# EAGLE library part EM260 (library ember)
LED driver with 28 current sources and I2C interface
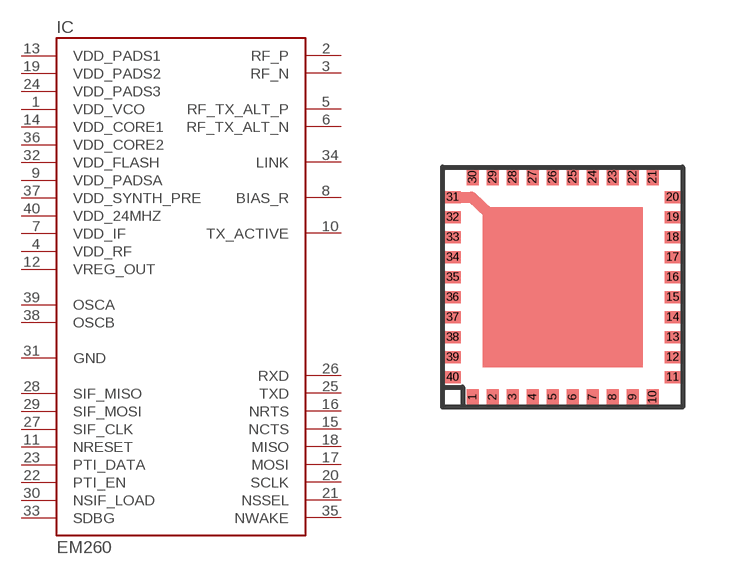
[diagram p0: symbol with the pads of QFN40; footprint QFN40]

Designator prefix IC

## EM260  [QFN40]
1  VDD_VCO  pwr
2  RF_P
3  RF_N
4  VDD_RF  pwr
5  RF_TX_ALT_P  out
6  RF_TX_ALT_N  out
7  VDD_IF  pwr
8  BIAS_R  in
9  VDD_PADSA  pwr
10  TX_ACTIVE  out
11  NRESET  in
12  VREG_OUT  in
13  VDD_PADS1  pwr
14  VDD_CORE1  pwr
15  NCTS  in
16  NRTS  out
17  MOSI  in
18  MISO  out
19  VDD_PADS2  pwr
20  SCLK  in
21  NSSEL  in
22  PTI_EN  out
23  PTI_DATA  out
24  VDD_PADS3  in
25  TXD  out
26  RXD  in
27  SIF_CLK  pwr
28  SIF_MISO  out
29  SIF_MOSI  in
30  NSIF_LOAD
31  GND  pwr
32  VDD_FLASH  in
33  SDBG  out
34  LINK  out
35  NWAKE  in
36  VDD_CORE2  pwr
37  VDD_SYNTH_PRE  pwr
38  OSCB
39  OSCA
40  VDD_24MHZ  pwr

## Footprint QFN40 (pad centres in mm)
smd 0.3 x 0.4: 1 -2.25,-2.75; 2 -1.75,-2.75; 3 -1.25,-2.75; 4 -0.75,-2.75; 5 -0.25,-2.75; 6 0.25,-2.75; 7 0.75,-2.75; 8 1.25,-2.75; 9 1.75,-2.75; 10 2.25,-2.75; 21 2.25,2.75; 22 1.75,2.75; 23 1.25,2.75; 24 0.75,2.75; 25 0.25,2.75; 26 -0.25,2.75; 27 -0.75,2.75; 28 -1.25,2.75; 29 -1.75,2.75; 30 -2.25,2.75
smd 0.4 x 0.3: 11 2.75,-2.25; 12 2.75,-1.75; 13 2.75,-1.25; 14 2.75,-0.75; 15 2.75,-0.25; 16 2.75,0.25; 17 2.75,0.75; 18 2.75,1.25; 19 2.75,1.75; 20 2.75,2.25; 31 -2.75,2.25; 32 -2.75,1.75; 33 -2.75,1.25; 34 -2.75,0.75; 35 -2.75,0.25; 36 -2.75,-0.25; 37 -2.75,-0.75; 38 -2.75,-1.25; 39 -2.75,-1.75; 40 -2.75,-2.25